# EAGLE library part MBED-SOCKET (library mbed-microcontroller)
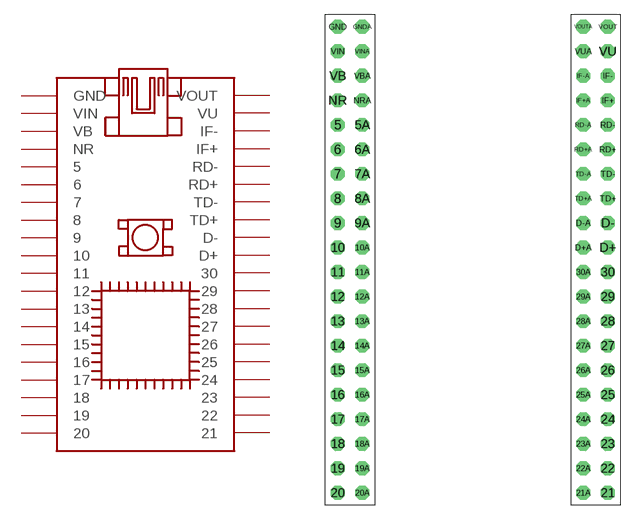
[diagram p1: symbol with the pads of MBED-SOCKET; footprint MBED-SOCKET]

Designator prefix IC; gates G$1=MBED-SOCKET G$2=USB-B-SOCKET

## MBED-SOCKET  [MBED-SOCKET]
5  G$1:5
5A  G$1:5A
6  G$1:6
6A  G$1:6A
7  G$1:7
7A  G$1:7A
8  G$1:8
8A  G$1:8A
9  G$1:9
9A  G$1:9A
10  G$1:10
10A  G$1:10A
11  G$1:11
11A  G$1:11A
12  G$1:12
12A  G$1:12A
13  G$1:13
13A  G$1:13A
14  G$1:14
14A  G$1:14A
15  G$1:15
15A  G$1:15A
16  G$1:16
16A  G$1:16A
17  G$1:17
17A  G$1:17A
18  G$1:18
18A  G$1:18A
19  G$1:19
19A  G$1:19A
20  G$1:20
20A  G$1:20A
21  G$1:21
21A  G$1:21A
22  G$1:22
22A  G$1:22A
23  G$1:23
23A  G$1:23A
24  G$1:24
24A  G$1:24A
25  G$1:25
25A  G$1:25A
26  G$1:26
26A  G$1:26A
27  G$1:27
27A  G$1:27A
28  G$1:28
28A  G$1:28A
29  G$1:29
29A  G$1:29A
30  G$1:30
30A  G$1:30A
D+  G$1:D+
D+A  G$1:D+A
D-  G$1:D-
D-A  G$1:D-A
GND  G$1:GND
GNDA  G$1:GNDA
IF+  G$1:IF+
IF+A  G$1:IF+A
IF-  G$1:IF-
IF-A  G$1:IF-A
NR  G$1:NR
NRA  G$1:NRA
RD+  G$1:RD+
RD+A  G$1:RD+A
RD-  G$1:RD-
RD-A  G$1:RD-A
TD+  G$1:TD+
TD+A  G$1:TD+A
TD-  G$1:TD-
TD-A  G$1:TD-A
VB  G$1:VB
VBA  G$1:VBA
VIN  G$1:VIN
VINA  G$1:VINA
VOUT  G$1:VOUT
VOUTA  G$1:VOUTA
VU  G$1:VU
VUA  G$1:VUA

## Footprint MBED-SOCKET (pad centres in mm)
drill 0.8 pad 1.422 octagon: 5 -2.54,-10.16; 5A 0,-10.16; 6 -2.54,-12.7; 6A 0,-12.7; 7 -2.54,-15.24; 7A 0,-15.24; 8 -2.54,-17.78; 8A 0,-17.78; 9 -2.54,-20.32; 9A 0,-20.32; 10 -2.54,-22.86; 10A 0,-22.86; 11 -2.54,-25.4; 11A 0,-25.4; 12 -2.54,-27.94; 12A 0,-27.94; 13 -2.54,-30.48; 13A 0,-30.48; 14 -2.54,-33.02; 14A 0,-33.02; 15 -2.54,-35.56; 15A 0,-35.56; 16 -2.54,-38.1; 16A 0,-38.1; 17 -2.54,-40.64; 17A 0,-40.64; 18 -2.54,-43.18; 18A 0,-43.18; 19 -2.54,-45.72; 19A 0,-45.72; 20 -2.54,-48.26; 20A 0,-48.26; 21 25.4,-48.26; 21A 22.86,-48.26; 22 25.4,-45.72; 22A 22.86,-45.72; 23 25.4,-43.18; 23A 22.86,-43.18; 24 25.4,-40.64; 24A 22.86,-40.64; 25 25.4,-38.1; 25A 22.86,-38.1; 26 25.4,-35.56; 26A 22.86,-35.56; 27 25.4,-33.02; 27A 22.86,-33.02; 28 25.4,-30.48; 28A 22.86,-30.48; 29 25.4,-27.94; 29A 22.86,-27.94; 30 25.4,-25.4; 30A 22.86,-25.4; D+ 25.4,-22.86; D+A 22.86,-22.86; D- 25.4,-20.32; D-A 22.86,-20.32; GND -2.54,0; GNDA 0,0; IF+ 25.4,-7.62; IF+A 22.86,-7.62; IF- 25.4,-5.08; IF-A 22.86,-5.08; NR -2.54,-7.62; NRA 0,-7.62; RD+ 25.4,-12.7; RD+A 22.86,-12.7; RD- 25.4,-10.16; RD-A 22.86,-10.16; TD+ 25.4,-17.78; TD+A 22.86,-17.78; TD- 25.4,-15.24; TD-A 22.86,-15.24; VB -2.54,-5.08; VBA 0,-5.08; VIN -2.54,-2.54; VINA 0,-2.54; VOUT 25.4,0; VOUTA 22.86,0; VU 25.4,-2.54; VUA 22.86,-2.54